# Altium footprint library connectors.PcbLib: 53 footprints (part 3 of 4)
Each footprint in its own frame and in the unit in brackets; x right, y up, seen from the top. Pads: shape width x height; smd on the part's side, far side on the other; paste and mask are expansions set on the pad; w line width, h text height; cw(c..) or ccw(c..) is an arc to the next point about the centre after c.
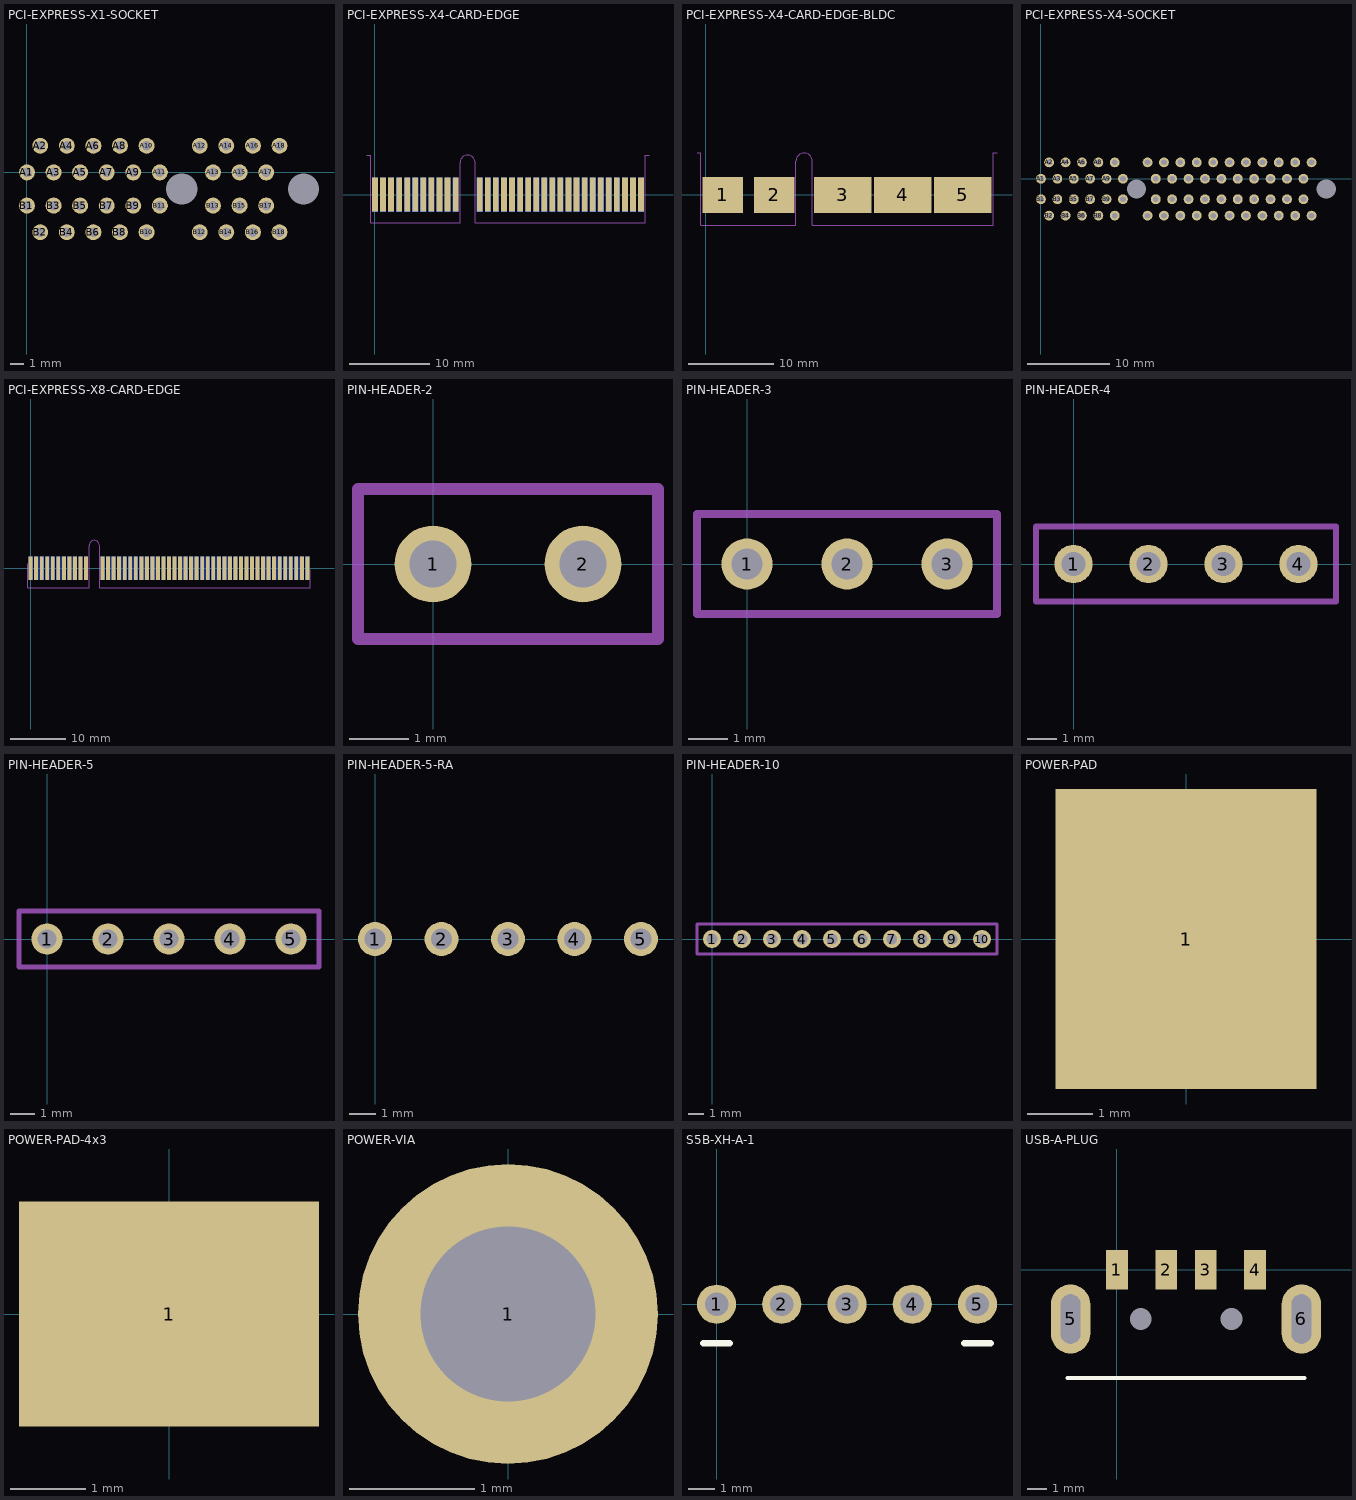
[diagram p2: the footprints below, top view; thin cyan lines are the x and y axes]

## PCI-EXPRESS-X1-SOCKET [mm]
pads (38):
  round 0 hole 2.35 unplated: 0(11.65,-1.25) 1(20.8,-1.25)
  round 1.2 hole 0.7: A1(0,0) A2(1,2) A3(2,0) A4(3,2) A5(4,0) A6(5,2) A7(6,0) A8(7,2) A9(8,0) A10(9,2) A11(10,0) A12(13,2) A13(14,0) A14(15,2) A15(16,0) A16(17,2) A17(18,0) A18(19,2) B1(0,-2.5) B2(1,-4.5) B3(2,-2.5) B4(3,-4.5) B5(4,-2.5) B6(5,-4.5) B7(6,-2.5) B8(7,-4.5) B9(8,-2.5) B10(9,-4.5) B11(10,-2.5) B12(13,-4.5) B13(14,-2.5) B14(15,-4.5) B15(16,-2.5) B16(17,-4.5) B17(18,-2.5) B18(19,-4.5)
3D body "c-1-1775801-2-c-3d.stp": height 11.01, standoff -4.54, extent -2.85,-6.35 22.15,2.45

## PCI-EXPRESS-X4-CARD-EDGE [mm]
pads (64):
  rect 0.7x4.2 smd far side: A1(0,0) A2(1,0) A3(2,0) A4(3,0) A5(4,0) A6(5,0) A7(6,0) A8(7,0) A9(8,0) A10(9,0) A11(10,0) A12(13,0) A13(14,0) A14(15,0) A15(16,0) A16(17,0) A17(18,0) A18(19,0) A19(20,0) A20(21,0) A21(22,0) A22(23,0) A23(24,0) A24(25,0) A25(26,0) A26(27,0) A27(28,0) A28(29,0) A29(30,0) A30(31,0) A31(32,0) A32(33,0)
  rect 0.7x4.2 smd: B1(0,0) B2(1,0) B3(2,0) B4(3,0) B5(4,0) B6(5,0) B7(6,0) B8(7,0) B9(8,0) B10(9,0) B11(10,0) B12(13,0) B13(14,0) B14(15,0) B15(16,0) B16(17,0) B17(18,0) B18(19,0) B19(20,0) B20(21,0) B21(22,0) B22(23,0) B23(24,0) B24(25,0) B25(26,0) B26(27,0) B27(28,0) B28(29,0) B29(30,0) B30(31,0) B31(32,0) B32(33,0)
Top Solder:
  region: 12.45,-3.5 33.55,-3.5 33.55,2.2 12.45,2.2
  region: -0.55,-3.5 -0.55,2.2 10.55,2.2 10.55,-3.5
Bottom Solder:
  region: 12.45,-3.5 33.55,-3.5 33.55,2.2 12.45,2.2
  region: -0.55,-3.5 -0.55,2.2 10.55,2.2 10.55,-3.5
Top 3D Body (Mech13):
  lines w0.01: -1,4.9 -0.55,4.9 -0.55,-3.5 10.55,-3.5 10.55,3.95 cw(c11.5,3.95) 12.45,3.95 12.45,-3.5 33.55,-3.5 33.55,4.9 34,4.9

## PCI-EXPRESS-X4-CARD-EDGE-BLDC [mm]
pads (5):
  rect 4.7x4.2 all layers, no hole: 1(2,0) 2(8,0)
  rect 6.7x4.2 all layers, no hole: 3(16,0) 4(23,0) 5(30,0)
Top Solder:
  region: 12.45,-3.5 33.55,-3.5 33.55,2.2 12.45,2.2
  region: -0.55,-3.5 10.55,-3.5 10.55,2.2 -0.55,2.2
Bottom Solder:
  region: 12.45,2.2 33.55,2.2 33.55,-3.5 12.45,-3.5
  region: -0.55,-3.5 -0.55,2.2 10.55,2.2 10.55,-3.5
Top 3D Body (Mech13):
  lines w0.01: -1,4.9 -0.55,4.9 -0.55,-3.5 10.55,-3.5 10.55,3.95 cw(c11.5,3.95) 12.45,3.95 12.45,-3.5 33.55,-3.5 33.55,4.9 34,4.9

## PCI-EXPRESS-X4-SOCKET [mm]
pads (66):
  round 0 hole 2.35 unplated: 0(11.65,-1.25) 1(34.8,-1.25)
  round 1.2 hole 0.7: A1(0,0) A2(1,2) A3(2,0) A4(3,2) A5(4,0) A6(5,2) A7(6,0) A8(7,2) A9(8,0) A10(9,2) A11(10,0) A12(13,2) A13(14,0) A14(15,2) A15(16,0) A16(17,2) A17(18,0) A18(19,2) A19(20,0) A20(21,2) A21(22,0) A22(23,2) A23(24,0) A24(25,2) A25(26,0) A26(27,2) A27(28,0) A28(29,2) A29(30,0) A30(31,2) A31(32,0) A32(33,2) B1(0,-2.5) B2(1,-4.5) B3(2,-2.5) B4(3,-4.5) B5(4,-2.5) B6(5,-4.5) B7(6,-2.5) B8(7,-4.5) B9(8,-2.5) B10(9,-4.5) B11(10,-2.5) B12(13,-4.5) B13(14,-2.5) B14(15,-4.5) B15(16,-2.5) B16(17,-4.5) B17(18,-2.5) B18(19,-4.5) B19(20,-2.5) B20(21,-4.5) B21(22,-2.5) B22(23,-4.5) B23(24,-2.5) B24(25,-4.5) B25(26,-2.5) B26(27,-4.5) B27(28,-2.5) B28(29,-4.5) B29(30,-2.5) B30(31,-4.5) B31(32,-2.5) B32(33,-4.5)
3D body "c-2-1775801-1-c-3d.stp": height 11.01, standoff -4.54, extent -2.85,-6.35 36.15,2.45

## PCI-EXPRESS-X8-CARD-EDGE [mm]
pads (98):
  rect 0.7x4.2 smd far side: A1(0,0) A2(1,0) A3(2,0) A4(3,0) A5(4,0) A6(5,0) A7(6,0) A8(7,0) A9(8,0) A10(9,0) A11(10,0) A12(13,0) A13(14,0) A14(15,0) A15(16,0) A16(17,0) A17(18,0) A18(19,0) A19(20,0) A20(21,0) A21(22,0) A22(23,0) A23(24,0) A24(25,0) A25(26,0) A26(27,0) A27(28,0) A28(29,0) A29(30,0) A30(31,0) A31(32,0) A32(33,0) A33(34,0) A34(35,0) A35(36,0) A36(37,0) A37(38,0) A38(39,0) A39(40,0) A40(41,0) A41(42,0) A42(43,0) A43(44,0) A44(45,0) A45(46,0) A46(47,0) A47(48,0) A48(49,0) A49(50,0)
  rect 0.7x4.2 smd: B1(0,0) B2(1,0) B3(2,0) B4(3,0) B5(4,0) B6(5,0) B7(6,0) B8(7,0) B9(8,0) B10(9,0) B11(10,0) B12(13,0) B13(14,0) B14(15,0) B15(16,0) B16(17,0) B17(18,0) B18(19,0) B19(20,0) B20(21,0) B21(22,0) B22(23,0) B23(24,0) B24(25,0) B25(26,0) B26(27,0) B27(28,0) B28(29,0) B29(30,0) B30(31,0) B31(32,0) B32(33,0) B33(34,0) B34(35,0) B35(36,0) B36(37,0) B37(38,0) B38(39,0) B39(40,0) B40(41,0) B41(42,0) B42(43,0) B43(44,0) B44(45,0) B45(46,0) B46(47,0) B47(48,0) B48(49,0) B49(50,0)
Top 3D Body (Mech13):
  lines w0.01: -0.55,0.775 -0.55,-3.5 10.55,-3.5 10.55,4.05 ; 10.549,4.05 cw(c11.5,4.05) 12.451,4.05 ; 12.45,4.05 12.45,-3.5 50.55,-3.5 50.55,-0.275

## PIN-HEADER-2 [mm]
pads (2):
  round 1.3 hole 0.8: 1(0,0) 2(2.54,0)
Top 3D Body (Mech13):
  lines w0.2: -1.27,-1.27 -1.27,1.27 3.81,1.27 3.81,-1.27 -1.27,-1.27

## PIN-HEADER-3 [mm]
pads (3):
  round 1.3 hole 0.8: 1(0,0) 2(2.54,0) 3(5.08,0)
Top 3D Body (Mech13):
  lines w0.2: -1.27,-1.27 6.35,-1.27 6.35,1.27 -1.27,1.27 -1.27,-1.27

## PIN-HEADER-4 [mm]
pads (4):
  round 1.3 hole 0.8: 1(0,0) 2(2.54,0) 3(5.08,0) 4(7.62,0)
Top 3D Body (Mech13):
  lines w0.2: -1.27,-1.27 -1.27,1.27 8.89,1.27 8.89,-1.27 -1.27,-1.27

## PIN-HEADER-5 [mm]
pads (5):
  round 1.3 hole 0.8: 1(0,0) 2(2.54,0) 3(5.08,0) 4(7.62,0) 5(10.16,0)
Top 3D Body (Mech13):
  lines w0.2: -1.17,-1.17 -1.17,1.17 11.33,1.17 11.33,-1.17 -1.17,-1.17

## PIN-HEADER-5-RA [mm]
pads (5):
  round 1.3 hole 0.8: 1(0,0) 2(2.54,0) 3(5.08,0) 4(7.62,0) 5(10.16,0)
3D body "User Library-Header_Male_RA_Low_5Pin.STEP": height 2.5, standoff -3.01, extent -1.27,-0.325 11.43,9.805

## PIN-HEADER-10 [mm]
pads (10):
  round 1.2 hole 0.7: 1(0,0) 2(2,0) 3(4,0) 4(6,0) 5(8,0) 6(10,0) 7(12,0) 8(14,0) 9(16,0) 10(18,0)
Top 3D Body (Mech13):
  lines w0.2: -1,-1 19,-1 19,1 -1,1 -1,-1

## POWER-PAD [mm]
pads (1):
  rect 4x4.6 smd: 1(0,0)

## POWER-PAD-4x3 [mm]
pads (1):
  rect 4x3 smd: 1(0,0)

## POWER-VIA [mm]
pads (1):
  round 2.4 hole 1.4: 1(0,0)

## S5B-XH-A-1 [mm]
pads (5):
  round 1.5 hole 0.9: 1(0,0) 2(2.5,0) 3(5,0) 4(7.5,0) 5(10,0)
Top Overlay:
  lines w0.254: -0.5,-1.5 0.5,-1.5 ; 9.5,-1.5 10.5,-1.5
3D body "S5B-XH-A-1.STEP": height 6.16, standoff -3.39, extent -2.45,-7.6 12.45,3.9

## USB-A-PLUG [mm]
pads (8):
  round 0 hole 1.1 unplated: 0(1.2,-2.5) 0(5.8,-2.5)
  rect 1.1x2 smd: 1(0,0) 2(2.5,0) 3(4.5,0) 4(7,0)
  rrect100% 2x3.5 hole 1 slot 2.5 at 90 deg unplated: 5(-2.35,-2.5) 6(9.35,-2.5)
Top Overlay:
  lines w0.2: -2.5,-5.5 9.5,-5.5
3D body: height 3.3, standoff 0, extent -2.5,-5.5 9.5,-1.45
3D body: height 3.3, standoff -1.2, extent -2.5,-20.25 9.5,-5.5